# Altium schematic symbol library DAC3482.SchLib: 1 symbol
Pins are listed as number, name and electrical type; pins without a type are passive.

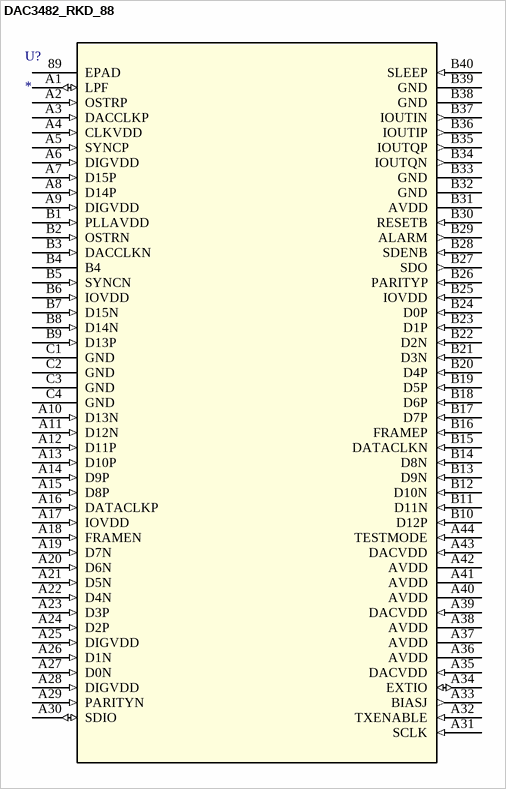
[diagram p0: symbol DAC3482_RKD_88]

## DAC3482_RKD_88
designator U?
Dual-Channel, 16-Bit, 1.25 GSPS Digital-to-Analog Converter (DAC); Manufacturer: Texas Instruments; GENERIC_PART_NUMBER: DAC3482; INDUSTRY_STD_PKG_TYPE: WQFN; FAMILY_NAME: HIGH SPEED DAC (>10MSPS); PIN_COUNT: 88; PACKAGE_DESIGNATOR: RKD; Datasheet_URL: http://www.ti.com/lit/gpn/DAC3482; Value: Value; Type: Type; RefDes: RefDes
footprint RKD88_6P4X6P4
pins: 89 EPAD (power), A1 LPF (io), A2 OSTRP (in), A3 DACCLKP (in), A4 CLKVDD (in), A5 SYNCP (in), A6 DIGVDD (in), A7 D15P (in), A8 D14P (in), A9 DIGVDD (in), A10 D13N (in), A11 D12N (in), A12 D11P (in), A13 D10P (in), A14 D9P (in), A15 D8P (in), A16 DATACLKP (in), A17 IOVDD (in), A18 FRAMEN (in), A19 D7N (in), A20 D6N (in), A21 D5N (in), A22 D4N (in), A23 D3P (in), A24 D2P (in), A25 DIGVDD (in), A26 D1N (in), A27 D0N (in), A28 DIGVDD (in), A29 PARITYN (in), A30 SDIO (io), A31 SCLK (in), A32 TXENABLE (in), A33 BIASJ (out), A34 EXTIO (io), A35 DACVDD (in), A36 AVDD (power), A37 AVDD (power), A38 AVDD (power), A39 DACVDD (in), A40 AVDD (power), A41 AVDD (power), A42 AVDD (power), A43 DACVDD (in), A44 TESTMODE (in), B1 PLLAVDD (in), B2 OSTRN (in), B3 DACCLKN (in), B4, B5 SYNCN (in), B6 IOVDD (in), B7 D15N (in), B8 D14N (in), B9 D13P (in), B10 D12P (in), B11 D11N (in), B12 D10N (in), B13 D9N (in), B14 D8N (in), B15 DATACLKN (in), B16 FRAMEP (in), B17 D7P (in), B18 D6P (in), B19 D5P (in), B20 D4P (in), B21 D3N (in), B22 D2N (in), B23 D1P (in), B24 D0P (in), B25 IOVDD (in), B26 PARITYP (in), B27 SDO (out), B28 SDENB (in), B29 ALARM (out), B30 RESETB (in), B31 AVDD (power), B32 GND (power), B33 GND (power), B34 IOUTQN (out), B35 IOUTQP (out), B36 IOUTIP (out), B37 IOUTIN (out), B38 GND (power), B39 GND (power), B40 SLEEP (in), C1 GND (power), C2 GND (power), C3 GND (power), C4 GND (power)